# Altium footprint library Diodes.PcbLib: 7 footprints
Each footprint in its own frame and in the unit in brackets; x right, y up, seen from the top. Pads: shape width x height; smd on the part's side, far side on the other; paste and mask are expansions set on the pad; w line width, h text height; cw(c..) or ccw(c..) is an arc to the next point about the centre after c.
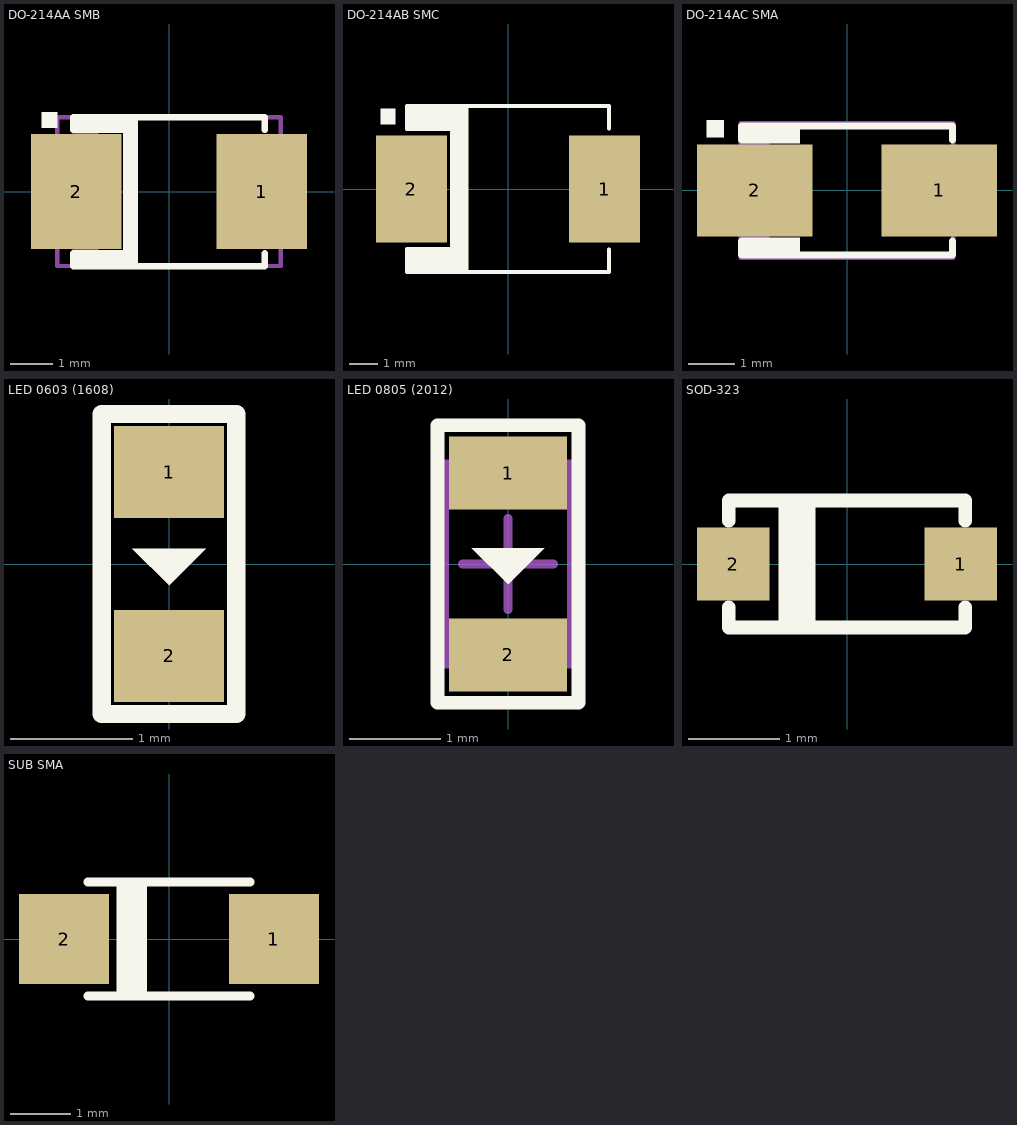
[diagram p0: the footprints below, top view; thin cyan lines are the x and y axes]

## DO-214AA SMB [mm] "DO-214AA SMB Diode"
height 2.3
pads (2):
  rect 2.159x2.743 smd paste-0.1 mask+0.025: 1(2.21,0) 2(-2.21,0)
Top Overlay:
  region: -0.737,-1.778 -0.737,1.753 -1.094,1.753 -1.094,-1.778
  rectangle: -3.048,1.524 -2.667,1.905
  rectangle: -2.286,-1.753 -1.016,-1.396
  rectangle: -2.286,1.397 -1.016,1.754
  lines w0.152: -2.286,-1.473 -2.286,-1.778 2.286,-1.778 2.286,-1.473 ; -2.286,1.473 -2.286,1.778 2.286,1.778 2.286,1.473
Mechanical 13:
  rectangle: -2.3,-1.46 -1.681,1.46
  lines w0.1: -2.667,-1.778 2.667,-1.778 2.667,1.778 -2.667,1.778 -2.667,-1.778
3D body: height 2.27, standoff -0.03, extent -2.7,-1.803 2.7,1.797

## DO-214AB SMC [mm]
height 2.41
pads (2):
  rect 2.5x3.75 smd: 1(3.4,0) 2(-3.4,0)
Top Overlay:
  rectangle: -2.032,-2.921 -1.397,2.921
  rectangle: -4.475,2.275 -3.95,2.825
  rectangle: -3.556,2.032 -2.032,2.921
  rectangle: -3.556,-2.921 -2.032,-2.032
  lines w0.152: -3.55,-2.108 -3.55,-2.921 3.55,-2.921 3.55,-2.125 ; -3.55,2.108 -3.55,2.921 3.55,2.921 3.55,2.125
3D body: height 2.3, standoff 0, extent -3.937,-2.95 4.013,2.95

## DO-214AC SMA [mm] "DO-214AC SMA Diode"
height 2.3
pads (2):
  rect 2.5x2 smd paste-0.1 mask+0.025: 1(2,0) 2(-2,0)
Top Overlay:
  rectangle: -2.286,1.016 -1.016,1.373
  rectangle: -2.286,-1.373 -1.016,-1.016
  rectangle: -3.048,1.143 -2.667,1.524
  lines w0.152: -2.286,-1.092 -2.286,-1.397 2.286,-1.397 2.286,-1.092 ; -2.286,1.092 -2.286,1.397 2.286,1.397 2.286,1.092
Mechanical 13:
  rectangle: -2.3,-1.46 -1.681,1.46
  lines w0.1: -2.3,-1.46 -2.3,1.46 2.3,1.46 2.3,-1.46 -2.3,-1.46
3D body: height 2.4, standoff 0, extent -2.473,-1.33 2.727,1.27

## LED 0603 (1608) [mm] "LED Chip 2-Leads 0603 Rectangular Silk Screen (1608)"
height 0.8
pads (2):
  rect 0.9x0.75 smd mask+0: 1(0,0.75) 2(0,-0.75)
Top Overlay:
  region: -0.3,0.125 0.3,0.125 0,-0.175
  lines w0.15: -0.55,-1.225 0.55,-1.225 0.55,1.225 -0.55,1.225 -0.55,-1.225

## LED 0805 (2012) [mm] "LED Chip 2-Leads 0805 Rectangular Silk Screen (2012)"
height 0.5
pads (2):
  rect 1.3x0.8 smd mask+0: 1(0,1) 2(0,-1)
Top Overlay:
  region: -0.4,0.175 0.4,0.175 0,-0.225
  lines w0.15: -0.775,-1.525 0.775,-1.525 0.775,1.525 -0.775,1.525 -0.775,-1.525
Mechanical 13:
  lines w0.1: -0.7,-1.1 0.7,-1.1 0.7,1.1 -0.7,1.1 -0.7,-1.1
Mechanical 15:
  lines w0.1: -0.5,0 0.5,0 ; 0,-0.5 0,0.5
3D body: height 0.46, standoff 0.03, extent -0.6,-0.8 0.6,0.8

## SOD-323 [mm] "SOD323 Diode"
height 1.1
pads (2):
  rect 0.8x0.8 smd paste-0.025 mask+0.025: 1(1.25,0) 2(-1.25,0)
Top Overlay:
  lines w0.152: -1.3,-0.475 -1.3,-0.7 1.3,-0.7 1.3,-0.475 ; -1.3,0.475 -1.3,0.7 1.3,0.7 1.3,0.475 ; -0.679,-0.7 -0.679,0.7 ; -0.575,-0.7 -0.575,0.7 ; -0.425,-0.7 -0.425,0.7
3D body: height 1.1, standoff 0, extent -1.3,-0.675 1.3,0.675

## SUB SMA [mm] "SUB SMA (MINI SMA) (TSMC S1GL) (Bourns Mini-SMA CD1607-B1X0)"
height 1.5
pads (2):
  rect 1.5x1.5 smd: 1(1.75,0) 2(-1.75,0)
Top Overlay:
  lines w0.152: -1.35,-0.95 1.35,-0.95 ; -1.35,0.95 1.35,0.95 ; -0.8,-0.95 -0.8,0.95 ; -0.7,-0.95 -0.7,0.95 ; -0.573,-0.95 -0.573,0.95 ; -0.446,-0.95 -0.446,0.95
3D body: height 1.5, standoff 0.03, extent -1.4,-0.8 1.4,0.8